# Altium schematic symbol library CC0402ZRY5V7BB104.SchLib: 1 symbol
Pins are listed as number, name and electrical type; pins without a type are passive.

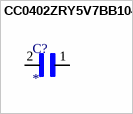
[diagram p0: symbol CC0402ZRY5V7BB104]

## CC0402ZRY5V7BB104
designator C?
0.1ÂµF -20%, +80% 16V Ceramic Capacitor Y5V (F) 0402 (1005 Metric); MP: CC0402ZRY5V7BB104; MF: Yageo; Digi-Key_Part_Number: 311-1047-1-ND; Package: 0402 Yageo; SnapEDA_Link: https://www.snapeda.com/parts/CC0402ZRY5V7BB104/Yageo/view-part/1821018/?ref=snap; Value: *
footprint CAPC1005X55N
pins: 1, 2